# Altium schematic symbol library ADM1177-1ARMZ.Schlib: 1 symbol
Pins are listed as number, name and electrical type; pins without a type are passive.

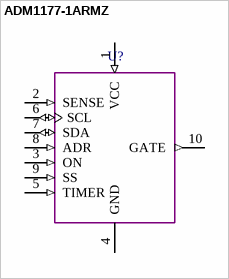
[diagram p0: symbol ADM1177-1ARMZ]

## ADM1177-1ARMZ
designator U?  (value not drawn)
pins: 1 VCC (in), 2 SENSE (in), 3 ON (in), 4 GND (power), 5 TIMER (in), 6 SCL (io), 7 SDA (io), 8 ADR (in), 9 SS (in), 10 GATE (out)